# EAGLE library part QPL9547TR7 (library QPL9547TR7)
0.1 - 6 GHz Ultra Low-Noise LNA Source: Datasheet <https://www.qorvo.com/products/d/da007268>
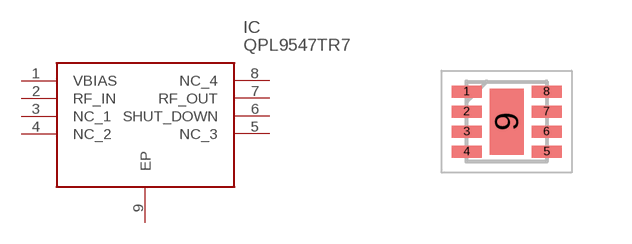
[diagram p0: symbol with the pads of SON50P200X200X95-9N; footprint SON50P200X200X95-9N]

Designator prefix IC

## QPL9547TR7 (Description: 0.1 - 6 GHz Ultra Low-Noise LNA; Height: 0.95mm; Manufacturer_Name: Qorvo; Manufacturer_Part_Number: QPL9547TR7; Mouser_Part_Number: 772-QPL9547TR7; Mouser_Price-Stock: https://www.mouser.co.uk/ProductDetail/Qorvo/QPL9547TR7?qs=7MVldsJ5UaxZMCnAEuCHXA%3D%3D)  [SON50P200X200X95-9N]
1  VBIAS
2  RF_IN
3  NC_1
4  NC_2
5  NC_3
6  SHUT_DOWN
7  RF_OUT
8  NC_4
9  EP

## Footprint SON50P200X200X95-9N (pad centres in mm)
QFN-9
smd 0.75 x 0.3: 1 -1,0.75; 2 -1,0.25; 3 -1,-0.25; 4 -1,-0.75; 5 1,-0.75; 6 1,-0.25; 7 1,0.25; 8 1,0.75
smd 0.85 x 1.65: 9 0,0